# EAGLE library part AD9754 (library Fitch_Eagle_Library)
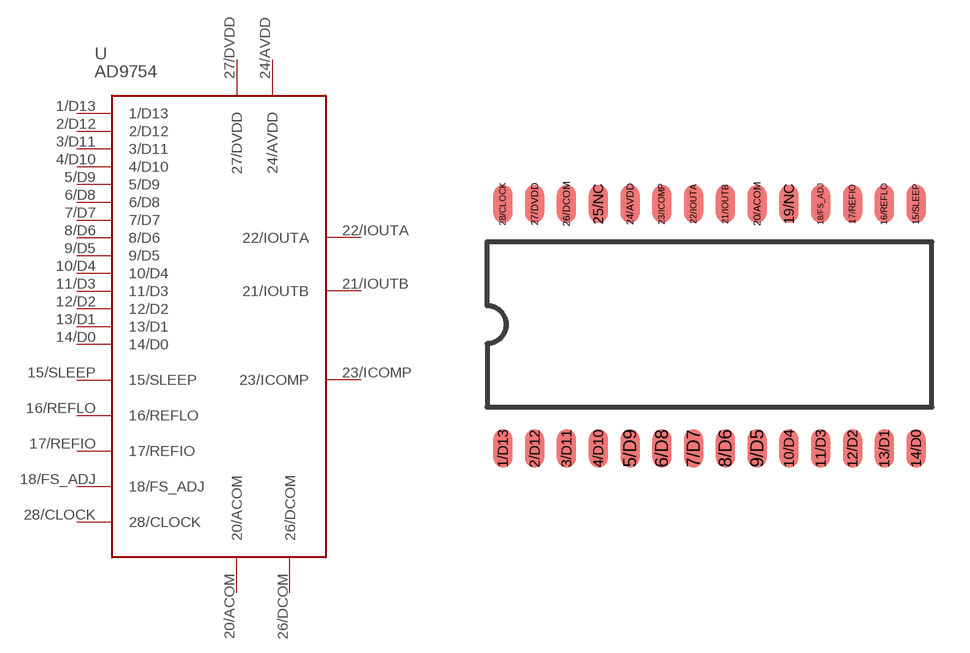
[diagram p13: symbol with the pads of AD9754; footprint AD9754]

Designator prefix -

## AD9754  [AD9754]
1/D13  1/D13
2/D12  2/D12
3/D11  3/D11
4/D10  4/D10
5/D9  5/D9
6/D8  6/D8
7/D7  7/D7
8/D6  8/D6
9/D5  9/D5
10/D4  10/D4
11/D3  11/D3
12/D2  12/D2
13/D1  13/D1
14/D0  14/D0
15/SLEEP  15/SLEEP
16/REFLO  16/REFLO
17/REFIO  17/REFIO
18/FS_ADJ  18/FS_ADJ
20/ACOM  20/ACOM
21/IOUTB  21/IOUTB
22/IOUTA  22/IOUTA
23/ICOMP  23/ICOMP
24/AVDD  24/AVDD
26/DCOM  26/DCOM
27/DVDD  27/DVDD
28/CLOCK  28/CLOCK

## Footprint AD9754 (pad centres in mm)
smd 0.762 x 1.524: 1/D13 -8.255,-4.953; 2/D12 -6.985,-4.953; 3/D11 -5.715,-4.953; 4/D10 -4.445,-4.953; 5/D9 -3.175,-4.953; 6/D8 -1.905,-4.953; 7/D7 -0.635,-4.953; 8/D6 0.635,-4.953; 9/D5 1.905,-4.953; 10/D4 3.175,-4.953; 11/D3 4.445,-4.953; 12/D2 5.715,-4.953; 13/D1 6.985,-4.953; 14/D0 8.255,-4.953; 15/SLEEP 8.255,4.826; 16/REFLO 6.985,4.826; 17/REFIO 5.715,4.826; 18/FS_ADJ 4.445,4.826; 19/NC 3.175,4.826; 20/ACOM 1.905,4.826; 21/IOUTB 0.635,4.826; 22/IOUTA -0.635,4.826; 23/ICOMP -1.905,4.826; 24/AVDD -3.175,4.826; 25/NC -4.445,4.826; 26/DCOM -5.715,4.826; 27/DVDD -6.985,4.826; 28/CLOCK -8.255,4.826